# Altium schematic symbol library Voltage_regulators.SchLib: 1 symbol
Pins are listed as number, name and electrical type; pins without a type are passive.

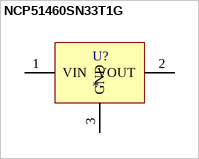
[diagram p0: symbol NCP51460SN33T1G]

## NCP51460SN33T1G
designator U?
Low power precision voltage reference; Iout = 20mA
footprint SOT23-3
pins: 1 VIN, 2 VOUT, 3 GND